# Altium schematic symbol library SCH - MOSFETS - ONSC-PMOS-ATP108.SCHLIB: 1 symbol
Pins are listed as number, name and electrical type; pins without a type are passive.

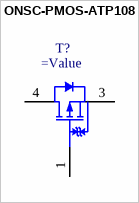
[diagram p0: symbol ONSC-PMOS-ATP108]

## ONSC-PMOS-ATP108
designator T?
P-Channel Power MOSFET, -40 V, -70 A, 10.4 mOhm, Single, 3-Pin ATPAK, Pb-Free, Tape and Reel
pins: 1 G, 3 S, 4 D